# Altium schematic symbol library Emergency.SchLib: 6 symbols
Pins are listed as number, name and electrical type; pins without a type are passive.

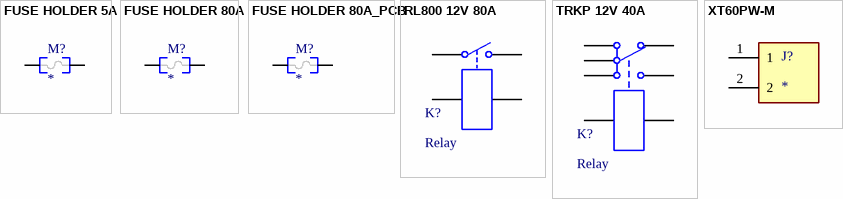
[diagram p0: symbols FUSE HOLDER 5A to XT60PW-M]

## FUSE HOLDER 5A
designator M?
5A Automative Fuse Holder Keystone 3568
footprint KEYSTONE 3568 (MINI PC AUTO-FUSE HOLDER)
pins: 1, 2

## FUSE HOLDER 80A
designator M?
80A Automative Fuse Holder Kablolu Baglanti icin; ComponentLink1Description: New link; ComponentLink1URL: https://www.optifuse.com/inline-fuseholders-lpx-23.php
footprint FUSE HOLDER 80A
pins: 1, 2

## FUSE HOLDER 80A_PCB
designator M?
80A Automative Fuse Holder PCB Baglantisi; ComponentLink1Description: New link; ComponentLink1URL: http://www.farnell.com/datasheets/1703972.pdf
footprint FUSE HOLDER 80A PCB
pins: 1, 2

## RL800 12V 80A
designator K?, comment Relay
Mini Röle 12V 80A Güç Rölesi 4 Fişli ÜSTÜN RL800; ComponentLink1Description: New link; ComponentLink1URL: https://urun.n11.com/role/mini-role-12v-80a-guc-rolesi-4-fisli-ustun-rl800-P368080847
footprint RL800 12V 80A (Mini Röle 12V 80A Güç Rölesi 4 Fişli ÜSTÜN RL800)
pins: 1 30, 2 87, 3 85, 4 86

## TRKP 12V 40A
designator K?, comment Relay
TRKP L-S-Z1/12VDC - RELAY 40A 12VDC FORMC; ComponentLink1Description: New link; ComponentLink1URL: https://ozdisan.com/elektromekanik-komponentler/roleler-ve-role-soketleri/genel-tip-roleler/TRKP-L-S-Z112VDC
footprint TRKP 12V 40A (TRKP L-S-Z1/12VDC - RELAY 40A 12VDC FORMC)
pins: 1, 2, 3, 4, 5, 6, 7

## XT60PW-M
designator J?
XT60PW-M; MF: AMASS; SnapEDA_Link: https://www.snapeda.com/parts/XT60PW-M%20/AMASS/view-part/3075559/?ref=snap; MP: XT60PW-M; Availability: Unavailable; Price: None; Value: *; Package: Package Analog Devices
footprint AMASS_XT60PW-M
pins: 1, 2